# EAGLE library part GS-SH-2XXT (library goodsky_btpl)
goodsky plastic shielded relay
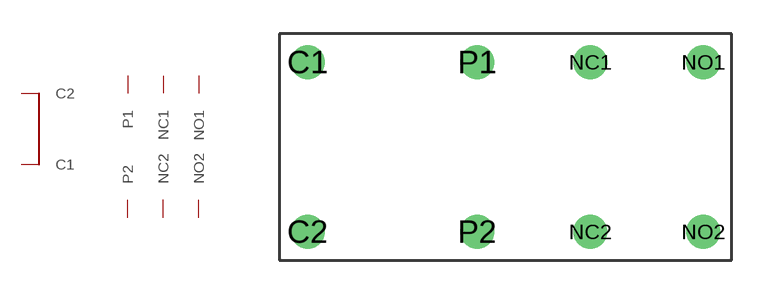
[diagram p0: symbol with the pads of GOODSKY_RELAY; footprint GOODSKY_RELAY]

Designator prefix BTPL

## GS-SH-2XXT5V  [GOODSKY_RELAY]
C1  P2
C2  P1
NC1  NO2  out
NC2  NO1  out
NO1  NC2  out
NO2  NC1  out
P1  C2
P2  C1

## Footprint GOODSKY_RELAY (pad centres in mm)
Goodsky Plastic shield type dual pole single throw
drill 1 round: C1 1.25,8.75; C2 1.25,1.25; NC1 13.75,8.75; NC2 13.75,1.25; NO1 18.75,8.75; NO2 18.75,1.25; P1 8.75,8.75; P2 8.75,1.25